# EAGLE library part MCP4362 (library ARVP_Linear_Technology)
MCP4362 Quad Programmable Rheostat
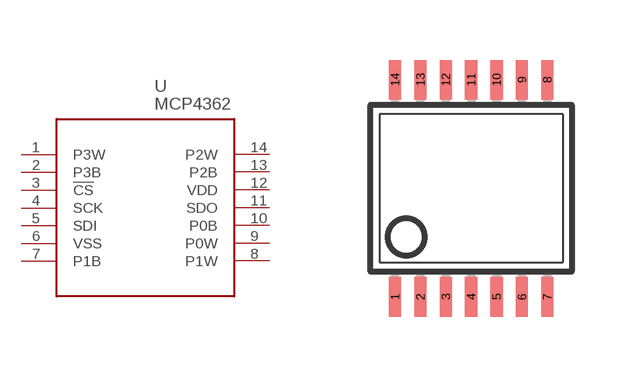
[diagram p8: symbol with the pads of TSSOP14; footprint TSSOP14]

Designator prefix -

## MCP4362  [TSSOP14]
1  P3W
2  P3B
3  !CS
4  SCK
5  SDI
6  VSS
7  P1B
8  P1W
9  P0W
10  P0B
11  SDO
12  VDD
13  P2B
14  P2W

## Footprint TSSOP14 (pad centres in mm)
Thin Shrink Small Outline Plastic 14
smd 0.305 x 0.991: 1 -1.905,-2.718; 2 -1.27,-2.718; 3 -0.635,-2.718; 4 0,-2.718; 5 0.635,-2.718; 6 1.27,-2.718; 7 1.905,-2.718; 8 1.905,2.718; 9 1.27,2.718; 10 0.635,2.718; 11 0,2.718; 12 -0.635,2.718; 13 -1.27,2.718; 14 -1.905,2.718